# Altium footprint library argus_connectors.PcbLib: 4 footprints
Each footprint in its own frame and in the unit in brackets; x right, y up, seen from the top. Pads: shape width x height; smd on the part's side, far side on the other; paste and mask are expansions set on the pad; w line width, h text height; cw(c..) or ccw(c..) is an arc to the next point about the centre after c.
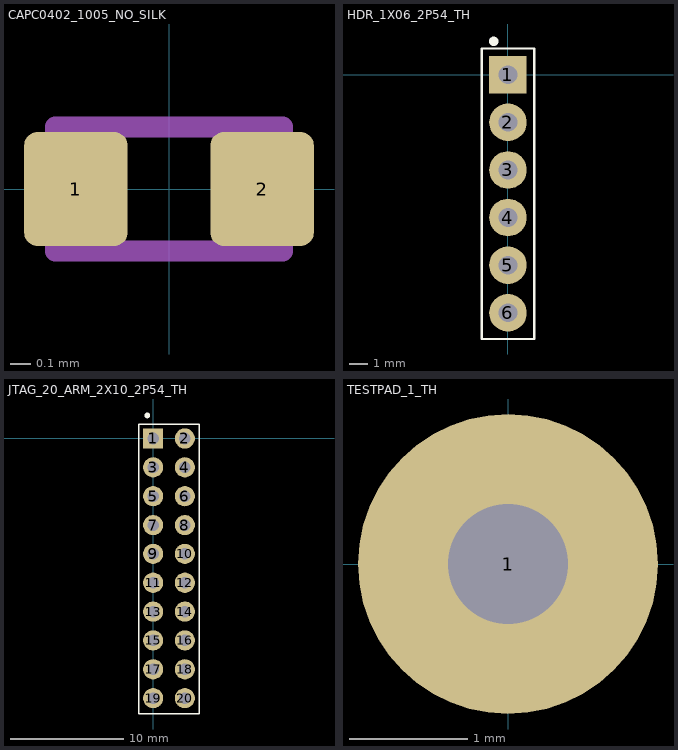
[diagram p0: the footprints below, top view; thin cyan lines are the x and y axes]

## CAPC0402_1005_NO_SILK [mm]
pads (2):
  rrect25% 0.5x0.55 smd: 1(-0.45,0) 2(0.45,0)
Top Assembly:
  lines w0.1: -0.55,-0.3 -0.55,0.3 0.55,0.3 0.55,-0.3 -0.55,-0.3
3D body "CAPC1005X60N EIA 0402.STEP": height 0.6, standoff 0, extent -0.5,-0.25 0.5,0.25

## HDR_1X06_2P54_TH [mm]
pads (6):
  rect 2x2 hole 1: 1(0,0)
  round 2 hole 1: 2(0,-2.54) 3(0,-5.08) 4(0,-7.62) 5(0,-10.16) 6(0,-12.7)
Top Overlay:
  circle w0.255: c-0.762,1.778 r0.125
  lines w0.125: -1.397,-14.097 1.397,-14.097 1.397,1.397 -1.397,1.397 -1.397,-14.097

## JTAG_20_ARM_2X10_2P54_TH [mil]
pads (20):
  rect 70x70 hole 40: 1(0,0)
  round 70 hole 40: 2(110,0) 3(0,-100) 4(110,-100) 5(0,-200) 6(110,-200) 7(0,-300) 8(110,-300) 9(0,-400) 10(110,-400) 11(0,-500) 12(110,-500) 13(0,-600) 14(110,-600) 15(0,-700) 16(110,-700) 17(0,-800) 18(110,-800) 19(0,-900) 20(110,-900)
Top Overlay:
  circle w10.04: c-20,80 r4.92
  lines w4.92: -50,-955 160,-955 160,50 -50,50 -50,-955

## TESTPAD_1_TH [mil]
pads (1):
  round 100 hole 40: 1(0,0)